# EAGLE library part 61002421121 (library Board_to_Board_Connectors_rev15d)
WR-PHD 2.54mm Dual SMT Pin Header, 24 Pins =>Code : Con_BTB_PHD_2.54_2_61002421121 <http://katalog.we-online.de/media/images/eican/Con_BTB_PHD_2.54_2_6100xx21121_pf2.jpg> Details see: http://katalog.we-online.de/en/em/610_0xx_211_21 Created 2014-05-29, Karrer Zheng 2014 (C) Würth Elektronik
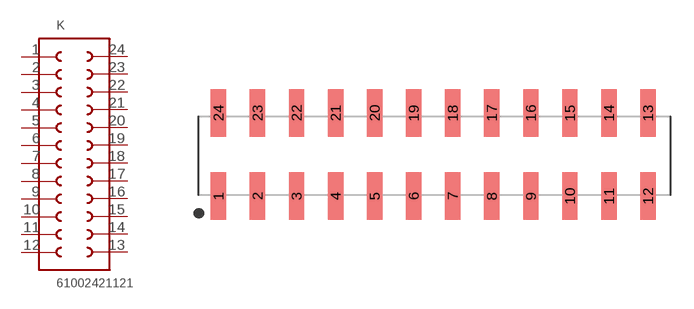
[diagram p82: symbol with the pads of 61002421121; footprint 61002421121]

Designator prefix K

## 61002421121  [61002421121]
1  1  pas
2  2  pas
3  3  pas
4  4  pas
5  5  pas
6  6  pas
7  7  pas
8  8  pas
9  9  pas
10  10  pas
11  11  pas
12  12  pas
13  13  pas
14  14  pas
15  15  pas
16  16  pas
17  17  pas
18  18  pas
19  19  pas
20  20  pas
21  21  pas
22  22  pas
23  23  pas
24  24  pas

## Footprint 61002421121 (pad centres in mm)
WR-PHD 2.54mm Dual SMT Pin Header, 24 Pins
smd 1 x 3.1: 1 -13.97,-2.7; 2 -11.43,-2.7; 3 -8.89,-2.7; 4 -6.35,-2.7; 5 -3.81,-2.7; 6 -1.27,-2.7; 7 1.27,-2.7; 8 3.81,-2.7; 9 6.35,-2.7; 10 8.89,-2.7; 11 11.43,-2.7; 12 13.97,-2.7; 13 13.97,2.7; 14 11.43,2.7; 15 8.89,2.7; 16 6.35,2.7; 17 3.81,2.7; 18 1.27,2.7; 19 -1.27,2.7; 20 -3.81,2.7; 21 -6.35,2.7; 22 -8.89,2.7; 23 -11.43,2.7; 24 -13.97,2.7